# Altium footprint library 0603_Diode.PcbLib: 1 footprints
Each footprint in its own frame and in the unit in brackets; x right, y up, seen from the top. Pads: shape width x height; smd on the part's side, far side on the other; paste and mask are expansions set on the pad; w line width, h text height; cw(c..) or ccw(c..) is an arc to the next point about the centre after c.
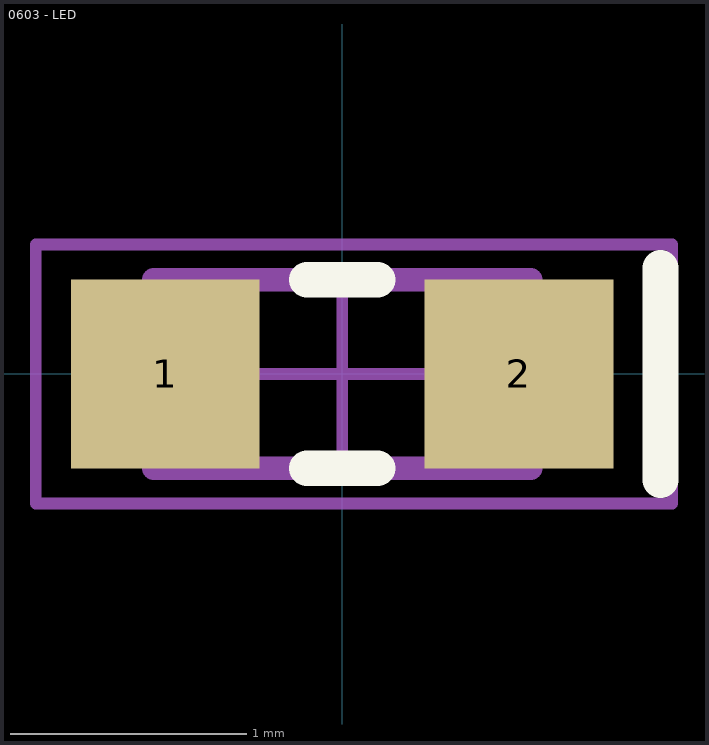
[diagram p0: the footprint, top view; thin cyan lines are the x and y axes]

## 0603 - LED [mm]
pads (2):
  rect 0.8x0.8 smd: 1(-0.75,0) 2(0.75,0)
Top Overlay:
  lines w0.152: -0.15,-0.4 0.15,-0.4 ; -0.15,0.4 0.15,0.4 ; 1.35,-0.45 1.35,0.45
Mechanical 13:
  lines w0.1: -0.8,-0.4 -0.8,0.4 0.8,0.4 0.8,-0.4 -0.8,-0.4
Mechanical 15:
  lines w0.05: -0.4,0 0.4,0 ; 0,-0.4 0,0.4 ; -1.3,-0.55 1.4,-0.55 1.4,0.55 -1.3,0.55 -1.3,-0.55